# EAGLE library part VL53L0X (library Hexabitz)
Time-of-Flight Ranging & Gesture Detection Sensor
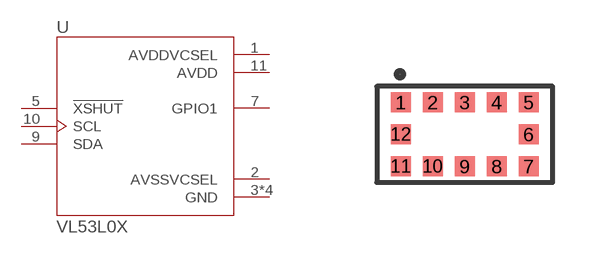
[diagram p9: symbol with the pads of SENSOR_VL53L0X; footprint SENSOR_VL53L0X]

Designator prefix U

## VL53L0X (MFN: STMicroelectronics; MPN: VL53L0CXV0DH/1; OCTOPART_URL: http://octopart.com/vl53l0cxv0dh%2F1-stmicroelectronics-71168165)  [SENSOR_VL53L0X]
1  AVDDVCSEL  pwr
2  AVSSVCSEL  pwr
3  GND  pwr
4  GND  pwr
5  !XSHUT  in
6  GND  pwr
7  GPIO1  out
9  SDA
10  SCL  in
11  AVDD  pwr
12  GND  pwr

## Footprint SENSOR_VL53L0X (pad centres in mm)
smd 0.5 x 0.5: 1 -1.6,0.8; 2 -0.8,0.8; 3 0,0.8; 4 0.8,0.8; 5 1.6,0.8; 6 1.6,0; 7 1.6,-0.8; 8 0.8,-0.8; 9 0,-0.8; 10 -0.8,-0.8; 11 -1.6,-0.8; 12 -1.6,0